# Altium footprint library MX25L12833FZNI-10G.PcbLib: 3 footprints
Each footprint in its own frame and in the unit in brackets; x right, y up, seen from the top. Pads: shape width x height; smd on the part's side, far side on the other; paste and mask are expansions set on the pad; w line width, h text height; cw(c..) or ccw(c..) is an arc to the next point about the centre after c.
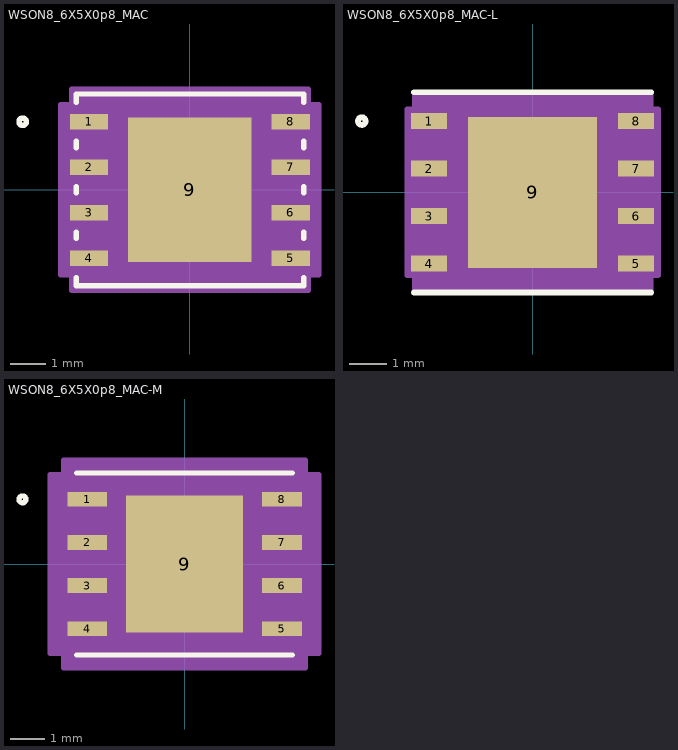
[diagram p0: the footprints below, top view; thin cyan lines are the x and y axes]

## WSON8_6X5X0p8_MAC [mil]
pads (9):
  rect 42x17 smd paste+0 mask+0: 1(-111,75) 2(-111,25) 3(-111,-25) 4(-111,-75) 5(111,-75) 6(111,-25) 7(111,25) 8(111,75)
  rect 136x159 smd paste+0 mask+0: 9(0,0)
Top Overlay:
  circle w6: c-184,75 r4
  lines w6: -125,-96.6 -125,-105.5 125,-105.5 125,-96.6 ; -125,-53.4 -125,-46.6 ; -125,-3.4 -125,3.4 ; -125,46.6 -125,53.4 ; -125,96.6 -125,105.5 125,105.5 125,96.6 ; 125,-53.4 125,-46.6 ; 125,-3.4 125,3.4 ; 125,46.6 125,53.4
Top Paste:
  region: -3.94,75.56 -64.06,75.56 -64.06,30.44 -3.94,30.44
  region: -3.94,22.56 -64.06,22.56 -64.06,-22.56 -3.94,-22.56
  region: -3.94,-30.44 -64.06,-30.44 -64.06,-75.56 -3.94,-75.56
  region: 64.06,75.56 3.94,75.56 3.94,30.44 64.06,30.44
  region: 64.06,22.56 3.94,22.56 3.94,-22.56 64.06,-22.56
  region: 64.06,-30.44 3.94,-30.44 3.94,-75.56 64.06,-75.56
Mechanical 13:
  circle w0: c-90,75 r3
  lines w0: -12,100.5 ccw(c0,100.5) 12,100.5
  lines w1: -120,-100.5 120,-100.5 120,100.5 -120,100.5 -120,-100.5
Mechanical 15:
  region: -130,-93.5 -142,-93.5 -142,93.5 -130,93.5 -130,110.5 130,110.5 130,93.5 142,93.5 142,-93.5 130,-93.5 130,-110.5 -130,-110.5
  lines w6: -142,-93.5 -142,93.5 -130,93.5 -130,110.5 130,110.5 130,93.5 142,93.5 142,-93.5 130,-93.5 130,-110.5 -130,-110.5 -130,-93.5 -142,-93.5
3D body "WSON8_6X5X0p8_MAC.step": height 32.09, standoff 0, extent -120,-100.51 120,100.51

## WSON8_6X5X0p8_MAC-L [mil]
pads (9):
  rect 38x17 smd paste+0 mask+0: 1(-109,75) 2(-109,25) 3(-109,-25) 4(-109,-75) 5(109,-75) 6(109,-25) 7(109,25) 8(109,75)
  rect 136x159 smd paste+0 mask+0: 9(0,0)
Top Overlay:
  circle w6: c-180,75 r4
  lines w6: -125,-105.5 125,-105.5 ; -125,105.5 125,105.5
Top Paste:
  region: -3.94,75.56 -64.06,75.56 -64.06,30.44 -3.94,30.44
  region: -3.94,22.56 -64.06,22.56 -64.06,-22.56 -3.94,-22.56
  region: -3.94,-30.44 -64.06,-30.44 -64.06,-75.56 -3.94,-75.56
  region: 64.06,75.56 3.94,75.56 3.94,30.44 64.06,30.44
  region: 64.06,22.56 3.94,22.56 3.94,-22.56 64.06,-22.56
  region: 64.06,-30.44 3.94,-30.44 3.94,-75.56 64.06,-75.56
Mechanical 13:
  circle w0: c-90,75 r3
  lines w0: -12,100.5 ccw(c0,100.5) 12,100.5
  lines w1: -120,-100.5 120,-100.5 120,100.5 -120,100.5 -120,-100.5
Mechanical 15:
  region: -124,-87.5 -132,-87.5 -132,87.5 -124,87.5 -124,104.5 124,104.5 124,87.5 132,87.5 132,-87.5 124,-87.5 124,-104.5 -124,-104.5
  lines w6: -132,-87.5 -132,87.5 -124,87.5 -124,104.5 124,104.5 124,87.5 132,87.5 132,-87.5 124,-87.5 124,-104.5 -124,-104.5 -124,-87.5 -132,-87.5
3D body "WSON8_6X5X0p8_MAC.step": height 32.09, standoff 0, extent -120,-100.51 120,100.51

## WSON8_6X5X0p8_MAC-M [mil]
pads (9):
  rect 46x17 smd paste+0 mask+0: 1(-113,75) 2(-113,25) 3(-113,-25) 4(-113,-75) 5(113,-75) 6(113,-25) 7(113,25) 8(113,75)
  rect 136x159 smd paste+0 mask+0: 9(0,0)
Top Overlay:
  circle w6: c-188,75 r4
  lines w6: -125,-105.5 125,-105.5 ; -125,105.5 125,105.5
Top Paste:
  region: -3.94,75.56 -64.06,75.56 -64.06,30.44 -3.94,30.44
  region: -3.94,22.56 -64.06,22.56 -64.06,-22.56 -3.94,-22.56
  region: -3.94,-30.44 -64.06,-30.44 -64.06,-75.56 -3.94,-75.56
  region: 64.06,75.56 3.94,75.56 3.94,30.44 64.06,30.44
  region: 64.06,22.56 3.94,22.56 3.94,-22.56 64.06,-22.56
  region: 64.06,-30.44 3.94,-30.44 3.94,-75.56 64.06,-75.56
Mechanical 13:
  circle w0: c-90,75 r3
  lines w0: -12,100.5 ccw(c0,100.5) 12,100.5
  lines w1: -120,-100.5 120,-100.5 120,100.5 -120,100.5 -120,-100.5
Mechanical 15:
  region: -140,-103.5 -156,-103.5 -156,103.5 -140,103.5 -140,120.5 140,120.5 140,103.5 156,103.5 156,-103.5 140,-103.5 140,-120.5 -140,-120.5
  lines w6: -156,-103.5 -156,103.5 -140,103.5 -140,120.5 140,120.5 140,103.5 156,103.5 156,-103.5 140,-103.5 140,-120.5 -140,-120.5 -140,-103.5 -156,-103.5
3D body "WSON8_6X5X0p8_MAC.step": height 32.09, standoff 0, extent -120,-100.51 120,100.51